# EAGLE library part STM32F429Z*T (library STM32F429Z_T_modular)
ARM 32-bit Cortex™-M3 CPU 180 MHz maximum frequency 1024 to 2048 Kbytes of Flash memory 256 kbytes of SRAM 114 GPIOs 1.8 to 3.6 V application supply
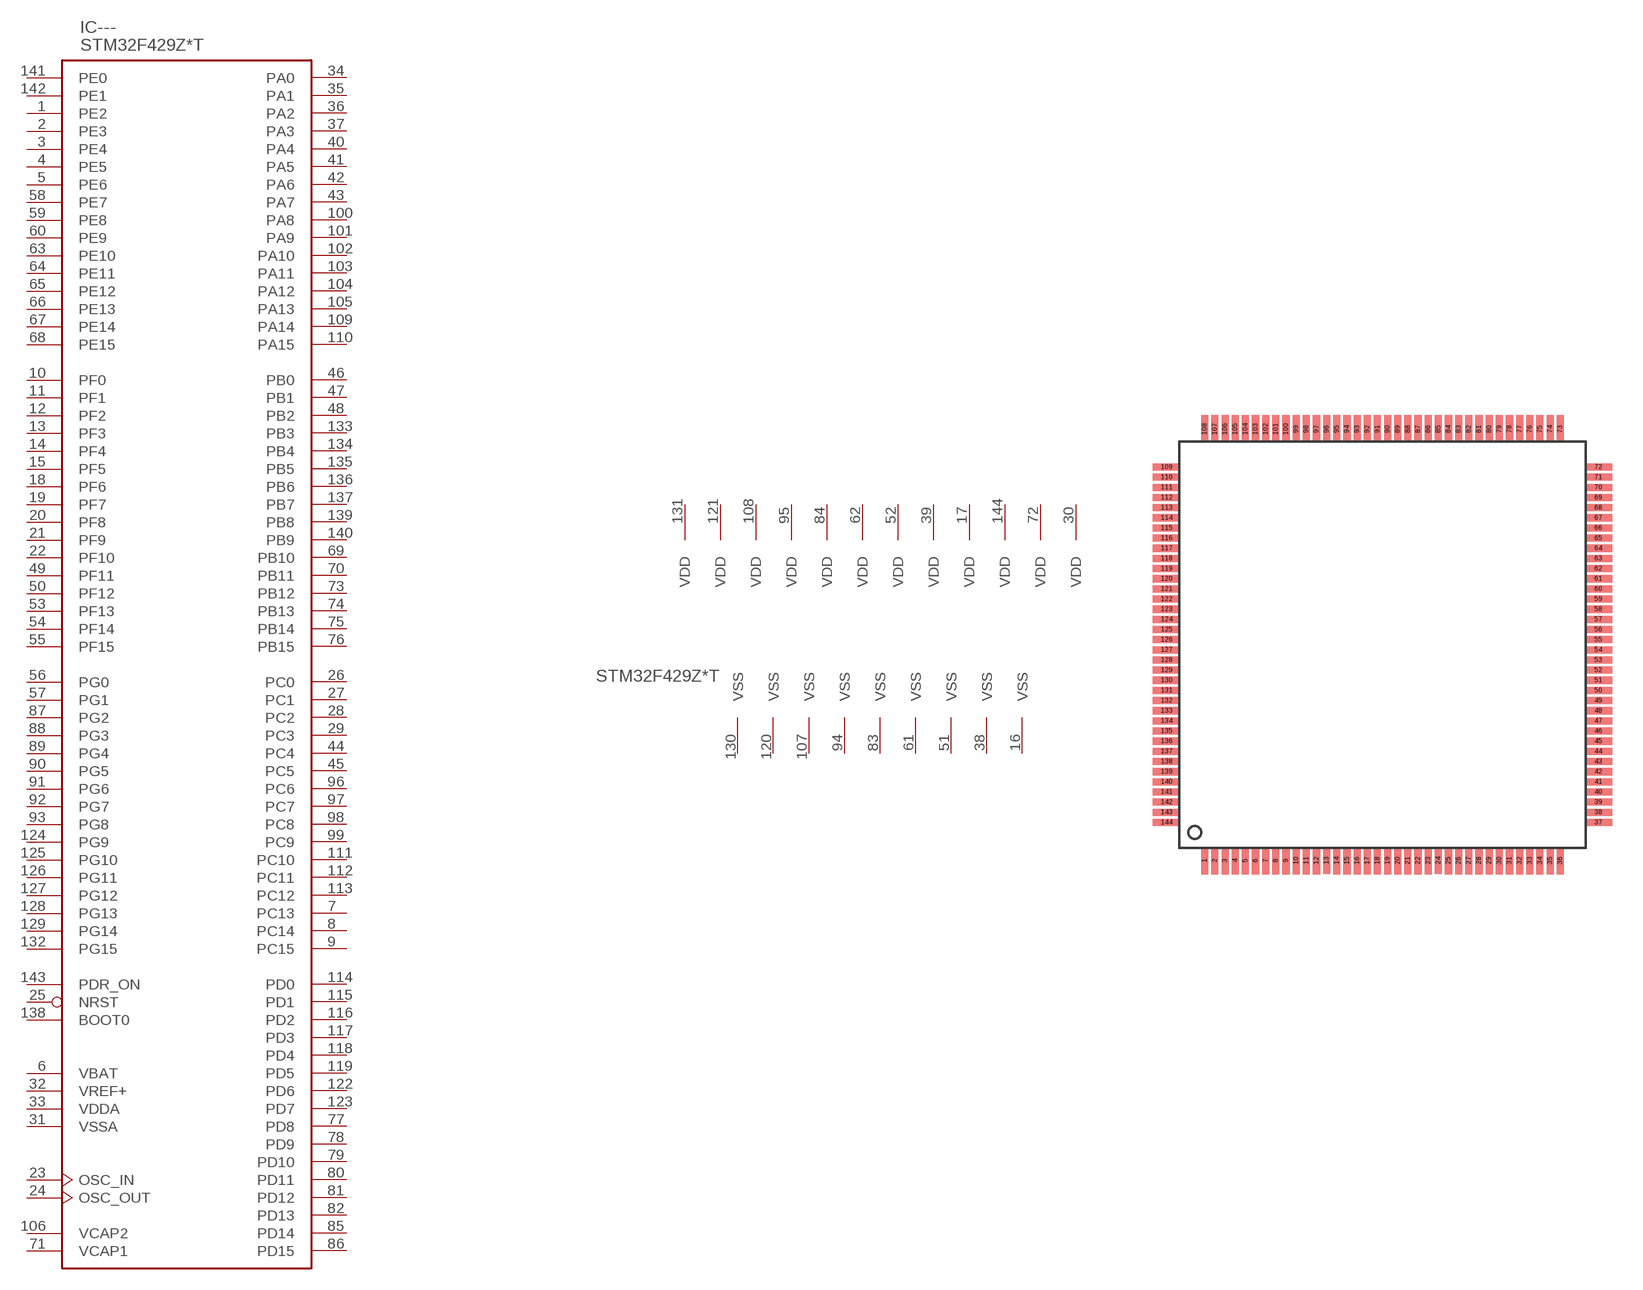
[diagram p0: symbol with the pads of LQFP144; footprint LQFP144]

Designator prefix IC; gates ---=STM32_144PIN_TYP3_SELF PWR=PWR_VDD12_VSS9

## STM32F429ZGT, STM32F429ZIT  [LQFP144]
1  ---:PE2
2  ---:PE3
3  ---:PE4
4  ---:PE5
5  ---:PE6
6  ---:VBAT  pwr
7  ---:PC13
8  ---:PC14
9  ---:PC15
10  ---:PF0
11  ---:PF1
12  ---:PF2
13  ---:PF3
14  ---:PF4
15  ---:PF5
16  PWR:VSS  pwr
17  PWR:VDD  pwr
18  ---:PF6
19  ---:PF7
20  ---:PF8
21  ---:PF9
22  ---:PF10
23  ---:OSC_IN
24  ---:OSC_OUT
25  ---:NRST
26  ---:PC0
27  ---:PC1
28  ---:PC2
29  ---:PC3
30  PWR:VDD  pwr
31  ---:VSSA  pwr
32  ---:VREF+  pwr
33  ---:VDDA  pwr
34  ---:PA0
35  ---:PA1
36  ---:PA2
37  ---:PA3
38  PWR:VSS  pwr
39  PWR:VDD  pwr
40  ---:PA4
41  ---:PA5
42  ---:PA6
43  ---:PA7
44  ---:PC4
45  ---:PC5
46  ---:PB0
47  ---:PB1
48  ---:PB2
49  ---:PF11
50  ---:PF12
51  PWR:VSS  pwr
52  PWR:VDD  pwr
53  ---:PF13
54  ---:PF14
55  ---:PF15
56  ---:PG0
57  ---:PG1
58  ---:PE7
59  ---:PE8
60  ---:PE9
61  PWR:VSS  pwr
62  PWR:VDD  pwr
63  ---:PE10
64  ---:PE11
65  ---:PE12
66  ---:PE13
67  ---:PE14
68  ---:PE15
69  ---:PB10
70  ---:PB11
71  ---:VCAP1  pwr
72  PWR:VDD  pwr
73  ---:PB12
74  ---:PB13
75  ---:PB14
76  ---:PB15
77  ---:PD8
78  ---:PD9
79  ---:PD10
80  ---:PD11
81  ---:PD12
82  ---:PD13
83  PWR:VSS  pwr
84  PWR:VDD  pwr
85  ---:PD14
86  ---:PD15
87  ---:PG2
88  ---:PG3
89  ---:PG4
90  ---:PG5
91  ---:PG6
92  ---:PG7
93  ---:PG8
94  PWR:VSS  pwr
95  PWR:VDD  pwr
96  ---:PC6
97  ---:PC7
98  ---:PC8
99  ---:PC9
100  ---:PA8
101  ---:PA9
102  ---:PA10
103  ---:PA11
104  ---:PA12
105  ---:PA13
106  ---:VCAP2  pwr
107  PWR:VSS  pwr
108  PWR:VDD  pwr
109  ---:PA14
110  ---:PA15
111  ---:PC10
112  ---:PC11
113  ---:PC12
114  ---:PD0
115  ---:PD1
116  ---:PD2
117  ---:PD3
118  ---:PD4
119  ---:PD5
120  PWR:VSS  pwr
121  PWR:VDD  pwr
122  ---:PD6
123  ---:PD7
124  ---:PG9
125  ---:PG10
126  ---:PG11
127  ---:PG12
128  ---:PG13
129  ---:PG14
130  PWR:VSS  pwr
131  PWR:VDD  pwr
132  ---:PG15
133  ---:PB3
134  ---:PB4
135  ---:PB5
136  ---:PB6
137  ---:PB7
138  ---:BOOT0  in
139  ---:PB8
140  ---:PB9
141  ---:PE0
142  ---:PE1
143  ---:PDR_ON  in
144  PWR:VDD  pwr

## Footprint LQFP144 (pad centres in mm)
LQFP144 20 x 20 mm, 144-pin low-profile quad flat package
smd 0.35 x 1.35: 1 -8.75,-10.625; 2 -8.25,-10.625; 3 -7.75,-10.625; 4 -7.25,-10.625; 5 -6.75,-10.625; 6 -6.25,-10.625; 7 -5.75,-10.625; 8 -5.25,-10.625; 9 -4.75,-10.625; 10 -4.25,-10.625; 11 -3.75,-10.625; 12 -3.25,-10.625; 13 -2.75,-10.62; 14 -2.25,-10.625; 15 -1.75,-10.625; 16 -1.25,-10.625; 17 -0.75,-10.625; 18 -0.25,-10.625; 19 0.25,-10.625; 20 0.75,-10.625; 21 1.25,-10.625; 22 1.75,-10.625; 23 2.25,-10.625; 24 2.75,-10.62; 25 3.25,-10.625; 26 3.75,-10.625; 27 4.25,-10.625; 28 4.75,-10.625; 29 5.25,-10.625; 30 5.75,-10.625; 31 6.25,-10.625; 32 6.75,-10.625; 33 7.25,-10.625; 34 7.75,-10.625; 35 8.25,-10.625; 36 8.75,-10.625; 73 8.75,10.625; 74 8.25,10.625; 75 7.75,10.625; 76 7.25,10.625; 77 6.75,10.625; 78 6.25,10.625; 79 5.75,10.625; 80 5.25,10.625; 81 4.75,10.625; 82 4.25,10.625; 83 3.75,10.625; 84 3.25,10.625; 85 2.75,10.625; 86 2.25,10.625; 87 1.75,10.625; 88 1.25,10.625; 89 0.75,10.625; 90 0.25,10.625; 91 -0.25,10.625; 92 -0.75,10.625; 93 -1.25,10.625; 94 -1.75,10.625; 95 -2.25,10.625; 96 -2.75,10.625; 97 -3.25,10.625; 98 -3.75,10.625; 99 -4.25,10.625; 100 -4.75,10.625; 101 -5.25,10.625; 102 -5.75,10.625; 103 -6.25,10.625; 104 -6.75,10.625; 105 -7.25,10.625; 106 -7.75,10.625; 107 -8.25,10.625; 108 -8.75,10.625
smd 1.35 x 0.35: 37 10.625,-8.75; 38 10.625,-8.25; 39 10.625,-7.75; 40 10.625,-7.25; 41 10.625,-6.75; 42 10.625,-6.25; 43 10.625,-5.75; 44 10.625,-5.25; 45 10.625,-4.75; 46 10.625,-4.25; 47 10.625,-3.75; 48 10.625,-3.25; 49 10.625,-2.75; 50 10.625,-2.25; 51 10.625,-1.75; 52 10.625,-1.25; 53 10.625,-0.75; 54 10.625,-0.25; 55 10.625,0.25; 56 10.625,0.75; 57 10.625,1.25; 58 10.625,1.75; 59 10.625,2.25; 60 10.625,2.75; 61 10.625,3.25; 62 10.625,3.75; 63 10.625,4.25; 64 10.625,4.75; 65 10.625,5.25; 66 10.625,5.75; 67 10.625,6.25; 68 10.625,6.75; 69 10.625,7.25; 70 10.625,7.75; 71 10.625,8.25; 72 10.625,8.75; 109 -10.625,8.75; 110 -10.625,8.25; 111 -10.625,7.75; 112 -10.625,7.25; 113 -10.625,6.75; 114 -10.625,6.25; 115 -10.625,5.75; 116 -10.625,5.25; 117 -10.625,4.75; 118 -10.625,4.25; 119 -10.625,3.75; 120 -10.625,3.25; 121 -10.625,2.75; 122 -10.625,2.25; 123 -10.625,1.75; 124 -10.625,1.25; 125 -10.625,0.75; 126 -10.625,0.25; 127 -10.625,-0.25; 128 -10.625,-0.75; 129 -10.625,-1.25; 130 -10.625,-1.75; 131 -10.625,-2.25; 132 -10.625,-2.75; 133 -10.625,-3.25; 134 -10.625,-3.75; 135 -10.625,-4.25; 136 -10.625,-4.75; 137 -10.625,-5.25; 138 -10.625,-5.75; 139 -10.625,-6.25; 140 -10.625,-6.75; 141 -10.625,-7.25; 142 -10.625,-7.75; 143 -10.625,-8.25; 144 -10.625,-8.75